# EAGLE library part RECEPTACLE (library CAN-D)
SMD PIN RECEPTACLE
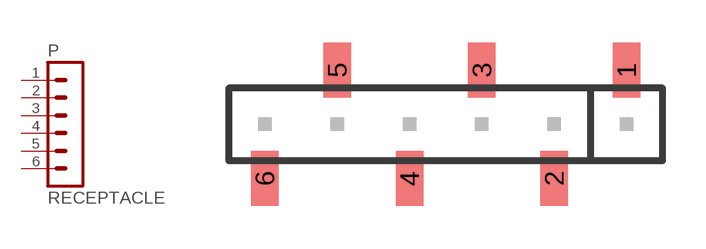
[diagram p9: symbol with the pads of SSM-106-L-SV-K-TR; footprint SSM-106-L-SV-K-TR]

Designator prefix P

## RECEPTACLE  [SSM-106-L-SV-K-TR]
1  1  pas
2  2  pas
3  3  pas
4  4  pas
5  5  pas
6  6  pas

## Footprint SSM-106-L-SV-K-TR (pad centres in mm)
SMD PIN HEADER - 0.1"
smd 0.965 x 1.93: 1 6.35,1.905; 2 3.81,-1.905; 3 1.27,1.905; 4 -1.27,-1.905; 5 -3.81,1.905; 6 -6.35,-1.905